# Altium schematic symbol library SCH - MCU - STM32 - ST MICROELECTRONICS STM32L412C8TX LQFP48.SchLib: 1 symbol
Pins are listed as number, name and electrical type; pins without a type are passive.

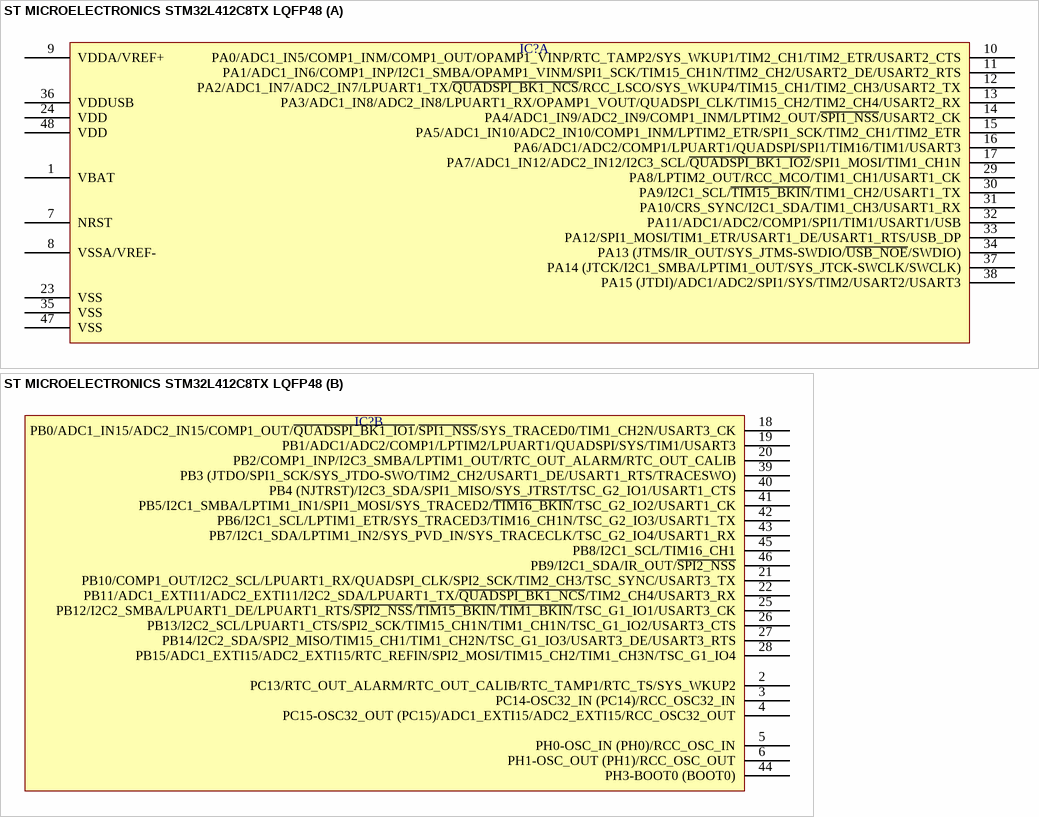
[diagram p0: symbol ST MICROELECTRONICS STM32L412C8TX LQFP48]

## ST MICROELECTRONICS STM32L412C8TX LQFP48
designator IC?  (value not drawn)
part A pins: 1 VBAT, 7 NRST, 8 VSSA/VREF-, 9 VDDA/VREF+, 10 PA0/ADC1_IN5/COMP1_INM/COMP1_OUT/OPAMP1_VINP/RTC_TAMP2/SYS_WKUP1/TIM2_CH1/TIM2_ETR/USART2_CTS, 11 PA1/ADC1_IN6/COMP1_INP/I2C1_SMBA/OPAMP1_VINM/SPI1_SCK/TIM15_CH1N/TIM2_CH2/USART2_DE/USART2_RTS, 12 PA2/ADC1_IN7/ADC2_IN7/LPUART1_TX/~{QUADSPI_BK1_NCS}/RCC_LSCO/SYS_WKUP4/TIM15_CH1/TIM2_CH3/USART2_TX, 13 PA3/ADC1_IN8/ADC2_IN8/LPUART1_RX/OPAMP1_VOUT/QUADSPI_CLK/TIM15_CH2/TIM2_CH4/USART2_RX, 14 PA4/ADC1_IN9/ADC2_IN9/COMP1_INM/LPTIM2_OUT/~{SPI1_NSS}/USART2_CK, 15 PA5/ADC1_IN10/ADC2_IN10/COMP1_INM/LPTIM2_ETR/SPI1_SCK/TIM2_CH1/TIM2_ETR, 16 PA6/ADC1/ADC2/COMP1/LPUART1/QUADSPI/SPI1/TIM16/TIM1/USART3, 17 PA7/ADC1_IN12/ADC2_IN12/I2C3_SCL/~{QUADSPI_BK1_IO2}/SPI1_MOSI/TIM1_CH1N, 23 VSS, 24 VDD, 29 PA8/LPTIM2_OUT/RCC_MCO/TIM1_CH1/USART1_CK, 30 PA9/I2C1_SCL/~{TIM15_BKIN}/TIM1_CH2/USART1_TX, 31 PA10/CRS_SYNC/I2C1_SDA/TIM1_CH3/USART1_RX, 32 PA11/ADC1/ADC2/COMP1/SPI1/TIM1/USART1/USB, 33 PA12/SPI1_MOSI/TIM1_ETR/USART1_DE/USART1_RTS/USB_DP, 34 PA13 (JTMS/IR_OUT/SYS_JTMS-SWDIO/~{USB_NOE}/SWDIO), 35 VSS, 36 VDDUSB, 37 PA14 (JTCK/I2C1_SMBA/LPTIM1_OUT/SYS_JTCK-SWCLK/SWCLK), 38 PA15 (JTDI)/ADC1/ADC2/SPI1/SYS/TIM2/USART2/USART3, 47 VSS, 48 VDD
part B pins: 2 PC13/RTC_OUT_ALARM/RTC_OUT_CALIB/RTC_TAMP1/RTC_TS/SYS_WKUP2, 3 PC14-OSC32_IN (PC14)/RCC_OSC32_IN, 4 PC15-OSC32_OUT (PC15)/ADC1_EXTI15/ADC2_EXTI15/RCC_OSC32_OUT, 5 PH0-OSC_IN (PH0)/RCC_OSC_IN, 6 PH1-OSC_OUT (PH1)/RCC_OSC_OUT, 18 PB0/ADC1_IN15/ADC2_IN15/COMP1_OUT/~{QUADSPI_BK1_IO1}/~{SPI1_NSS}/SYS_TRACED0/TIM1_CH2N/USART3_CK, 19 PB1/ADC1/ADC2/COMP1/LPTIM2/LPUART1/QUADSPI/SYS/TIM1/USART3, 20 PB2/COMP1_INP/I2C3_SMBA/LPTIM1_OUT/RTC_OUT_ALARM/RTC_OUT_CALIB, 21 PB10/COMP1_OUT/I2C2_SCL/LPUART1_RX/QUADSPI_CLK/SPI2_SCK/TIM2_CH3/TSC_SYNC/USART3_TX, 22 PB11/ADC1_EXTI11/ADC2_EXTI11/I2C2_SDA/LPUART1_TX/~{QUADSPI_BK1_NCS}/TIM2_CH4/USART3_RX, 25 PB12/I2C2_SMBA/LPUART1_DE/LPUART1_RTS/~{SPI2_NSS}/~{TIM15_BKIN}/~{TIM1_BKIN}/TSC_G1_IO1/USART3_CK, 26 PB13/I2C2_SCL/LPUART1_CTS/SPI2_SCK/TIM15_CH1N/TIM1_CH1N/TSC_G1_IO2/USART3_CTS, 27 PB14/I2C2_SDA/SPI2_MISO/TIM15_CH1/TIM1_CH2N/TSC_G1_IO3/USART3_DE/USART3_RTS, 28 PB15/ADC1_EXTI15/ADC2_EXTI15/RTC_REFIN/SPI2_MOSI/TIM15_CH2/TIM1_CH3N/TSC_G1_IO4, 39 PB3 (JTDO/SPI1_SCK/SYS_JTDO-SWO/TIM2_CH2/USART1_DE/USART1_RTS/TRACESWO), 40 PB4 (NJTRST)/I2C3_SDA/SPI1_MISO/SYS_JTRST/TSC_G2_IO1/USART1_CTS, 41 PB5/I2C1_SMBA/LPTIM1_IN1/SPI1_MOSI/SYS_TRACED2/~{TIM16_BKIN}/TSC_G2_IO2/USART1_CK, 42 PB6/I2C1_SCL/LPTIM1_ETR/SYS_TRACED3/TIM16_CH1N/TSC_G2_IO3/USART1_TX, 43 PB7/I2C1_SDA/LPTIM1_IN2/SYS_PVD_IN/SYS_TRACECLK/TSC_G2_IO4/USART1_RX, 44 PH3-BOOT0 (BOOT0), 45 PB8/I2C1_SCL/TIM16_CH1, 46 PB9/I2C1_SDA/IR_OUT/~{SPI2_NSS}